# EAGLE library part RTC_WAVESHARE (library customy)
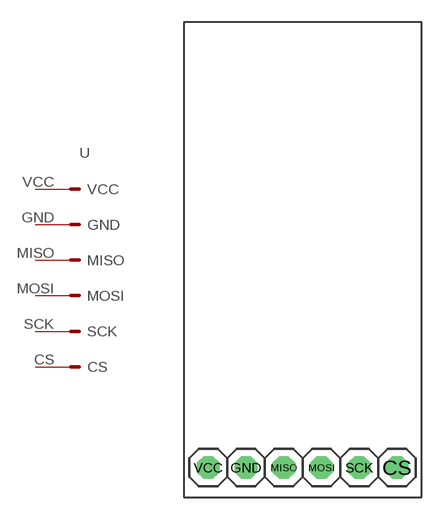
[diagram p1: symbol with the pads of RTC; footprint RTC]

Designator prefix -

## RTC_WAVESHARE  [RTC]
CS  CS
GND  GND
MISO  MISO
MOSI  MOSI
SCK  SCK
VCC  VCC

## Footprint RTC (pad centres in mm)
PIN HEADER
drill 1.016 octagon: CS 6.35,0; GND -3.81,0; MISO -1.27,0; MOSI 1.27,0; SCK 3.81,0; VCC -6.35,0